# EAGLE library part TPS61175 (library ICs)
DC-DC Switching Boost (Step Up) Regulator, Adjustable, 2.9V-18Vin, 2.9V-38Vout, 3Aout, HTSSOP-14
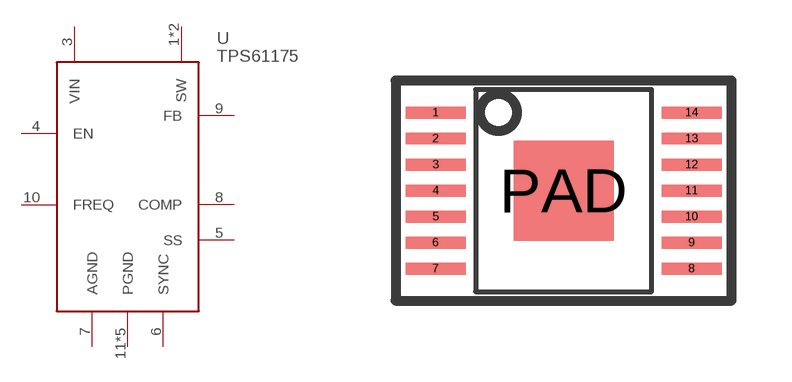
[diagram p109: symbol with the pads of HTSSOP14; footprint HTSSOP14]

Designator prefix U

## TPS61175PWP (FARNELL: 1694432; PRICE_PER: 3.403; VALUE: TPS61175)  [HTSSOP14]
1  SW
2  SW
3  VIN
4  EN
5  SS
6  SYNC
7  AGND
8  COMP
9  FB
10  FREQ
11  PGND
12  PGND
13  PGND
14  PGND
PAD  PGND

## Footprint HTSSOP14 (pad centres in mm)
smd 1.5 x 0.3: 1 -3.2,1.95; 2 -3.2,1.3; 3 -3.2,0.65; 4 -3.2,0; 5 -3.2,-0.65; 6 -3.2,-1.3; 7 -3.2,-1.95; 8 3.2,-1.95; 9 3.2,-1.3; 10 3.2,-0.65; 11 3.2,0; 12 3.2,0.65; 13 3.2,1.3; 14 3.2,1.95
smd 2.5 x 2.5: PAD 0,0